# Altium footprint library simplex_3.PcbLib: 39 footprints (part 1 of 3)
Each footprint in its own frame and in the unit in brackets; x right, y up, seen from the top. Pads: shape width x height; smd on the part's side, far side on the other; paste and mask are expansions set on the pad; w line width, h text height; cw(c..) or ccw(c..) is an arc to the next point about the centre after c.
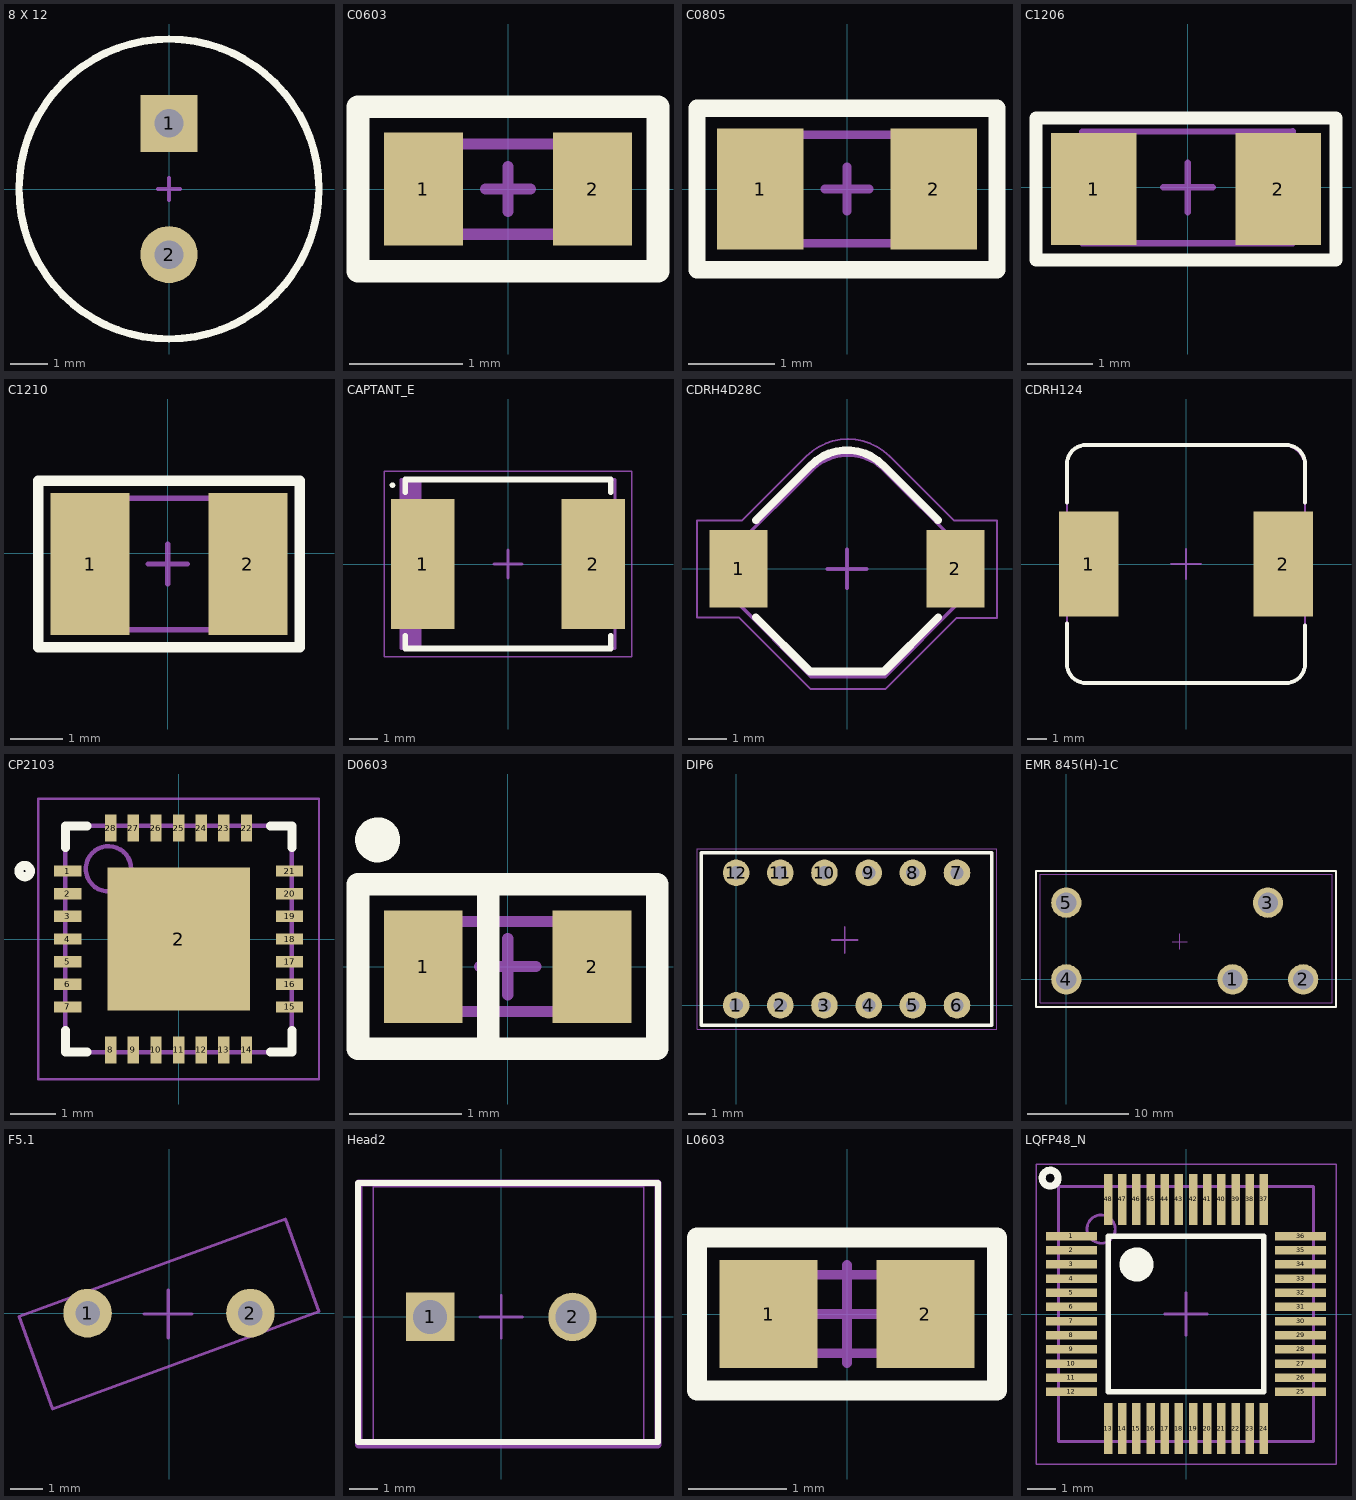
[diagram p0: the footprints below, top view; thin cyan lines are the x and y axes]

## 8 X 12 [mil]
pads (2):
  rect 60x60 hole 30: 1(0,68.9)
  round 60 hole 30: 2(0,-68.9)
Top Overlay:
  circle w7.87: c0,0 r157.56
Mechanical 9:
  text ".Comment" at -39.37,-29.53 h31.5
  text ".Designator" at -39.37,9.84 h39.37
Mechanical 11:
  circle w3.94: c0,0 r157.56
Mechanical 15:
  circle w1.97: c0,0 r157.56
  lines w3.94: -11.81,0 11.81,0 ; 0,-11.81 0,11.81
3D body: height 472.44, standoff 0, extent -157.24,-157.41 157.49,157.43

## C0603 [mm]
height 0.9
pads (2):
  rect 0.7x1 smd: 1(-0.75,0) 2(0.75,0)
Top Overlay:
  lines w0.2: -1.33,-0.73 -1.33,0.73 1.33,0.73 1.33,-0.73 -1.33,-0.73
Mechanical 9:
  text ".Comment" at -0.75,-0.5 h0.8
  text ".Designator" at -0.75,0 h1
Mechanical 11:
  lines w0.1: -0.8,-0.4 0.8,-0.4 0.8,0.4 -0.8,0.4 -0.8,-0.4
Mechanical 15:
  lines w0.05: 0,0.725 -1.325,0.725 ; -1.325,0.725 -1.325,-0.725 1.325,-0.725 1.325,0.725 -1.325,0.725
  lines w0.1: -0.2,0 0.2,0 ; 0,-0.2 0,0.2
3D body: height 0.9, standoff 0, extent -0.8,-0.4 0.8,0.4

## C0805 [mm]
height 1.3
pads (2):
  rect 1x1.4 smd: 1(-1,0) 2(1,0)
Top Overlay:
  lines w0.2: -1.73,-0.93 -1.73,0.93 1.73,0.93 1.73,-0.93 -1.73,-0.93
Mechanical 9:
  text ".Comment" at -0.75,-0.5 h0.8
  text ".Designator" at -0.75,0.25 h1
Mechanical 11:
  lines w0.1: -1,-0.625 1,-0.625 1,0.625 -1,0.625 -1,-0.625
Mechanical 15:
  lines w0.05: -1.73,-0.93 1.73,-0.93 1.73,0.93 -1.73,0.93 -1.73,-0.93
  lines w0.1: -0.254,0 0.254,0 ; 0,-0.254 0,0.254
3D body: height 0.78, standoff 0, extent -1,-0.625 1,0.625

## C1206 [mm]
height 1.5
pads (2):
  rect 1.3x1.7 smd: 1(-1.428,-0.024) 2(1.372,-0.024)
Top Overlay:
  lines w0.2: -2.308,-1.104 -2.308,1.056 2.252,1.056 2.252,-1.104 -2.308,-1.104
Mechanical 9:
  text ".Designator" at -1,0.25 h1
  text ".Comment" at -1,-0.5 h0.8
Mechanical 11:
  lines w0.1: -1.603,-0.849 1.597,-0.849 1.597,0.851 -1.603,0.849 -1.603,-0.849
Mechanical 15:
  lines w0.05: 0,1.05 -2.3,1.05 ; -2.3,1.05 2.25,1.05 2.25,-1.1 -2.3,-1.1 -2.3,1.05
  lines w0.1: -0.375,0 0.375,0 ; 0,-0.375 0,0.375
3D body: height 1.45, standoff -0.05, extent -1.603,-0.849 1.597,0.851

## C1210 [mm]
height 2.5
pads (2):
  rect 1.5x2.7 smd: 1(-1.475,-0.2) 2(1.525,-0.2)
Top Overlay:
  lines w0.2: -2.455,-1.78 2.505,-1.78 2.505,1.38 -2.455,1.38 -2.455,-1.78
Mechanical 9:
  text ".Designator" at -1.25,0 h1
  text ".Comment" at -1.25,-0.75 h0.8
Mechanical 11:
  lines w0.1: -1.575,-1.45 -1.575,1.05 1.625,1.05 1.625,-1.45 -1.575,-1.45
Mechanical 15:
  lines w0.05: -2.455,-1.78 -2.455,1.38 2.505,1.38 2.505,-1.78 -2.455,-1.78
  lines w0.1: -0.375,-0.2 0.375,-0.2 ; 0,-0.575 0,0.175
3D body: height 1.65, standoff -0.05, extent -1.5,-1.425 1.7,1.075

## CAPTANT_E [mm] "Chip Capacitor, 2-Leads, Body 7,30x4,30mm, IPC Medium Density"
height 4.4
pads (2):
  rect 2.25x4.6 smd: 1(-3.025,0) 2(3.025,0)
Top Overlay:
  circle w0.1: c-4.1,2.8 r0.05
  lines w0.2: -3.65,-2.55 -3.65,-3 3.65,-3 3.65,-2.55 ; -3.65,2.55 -3.65,3 3.65,3 3.65,2.55
Mechanical 9:
  text ".Designator" at -0.6,0.3 h1
  text ".Comment" at -0.6,-0.6 h0.8
Mechanical 11:
  rectangle: -3.8,-3 -3.125,3
  lines w0.1: -3.125,-3 -3.125,3 ; -3.8,-3 3.8,-3 3.8,3 -3.8,3 -3.8,-3
Mechanical 15:
  lines w0.05: -4.4,-3.3 4.4,-3.3 4.4,3.3 -4.4,3.3 -4.4,-3.3
  lines w0.1: -0.5,0 0.5,0 ; 0,-0.5 0,0.5
3D body: height 3.6, standoff 0, extent -3.65,-3 3.65,3

## CDRH4D28C [mm]
height 3
pads (2):
  rect 1.5x2 smd: 1(-2.8,0) 2(2.8,0)
Top Overlay:
  lines w0.2: -2.356,-1.25 -0.955,-2.652 0.955,-2.652 2.356,-1.25 ; -2.353,1.253 -0.919,2.687 cw(c0,1.768) 0.919,2.687 2.353,1.253
Mechanical 9:
  text ".Comment" at -0.75,-0.5 h0.8
  text ".Designator" at -0.75,0.19 h1
Mechanical 11:
  lines w0.1: -2.874,-0.832 -0.93,-2.777 0.98,-2.777 2.924,-0.832 2.924,0.582 0.944,2.562 ccw(c0.025,1.643) -0.894,2.562 -2.874,0.582 -2.874,-0.832
Mechanical 15:
  lines w0.05: -3.875,-1.25 -3.875,1.25 -2.75,1.25 -2.706,1.25 -1.052,2.904 cw(c0.024,1.827) 1.101,2.904 ; -3.873,-1.252 -2.798,-1.252 -0.95,-3.1 1,-3.1 2.825,-1.275 3.875,-1.275 3.875,1.25 2.762,1.25 1.105,2.908
  lines w0.1: -0.5,0 0.5,0 ; 0,-0.5 0,0.5
3D body: height 3, standoff 0, extent -3.511,-3.621 3.561,3.45

## CDRH124 [mm]
pads (2):
  rect 3x5.3 smd: 1(-4.9,0) 2(4.9,0)
Top Overlay:
  lines w0.2: -6,-3 -6,-5 ccw(c-5,-5) -5,-6 5,-6 ccw(c5,-5) 6,-5 6,-3.1 ; -6,3.1 -6,5 cw(c-5,5) -5,6 5,6 cw(c5,5) 6,5 6,3.1
Mechanical 9:
  text ".Designator" at -1,0.25 h1
  text ".Comment" at -1,-0.5 h0.8
Mechanical 11:
  lines w0.1: -6,-5 ccw(c-5,-5) -5,-6 5,-6 ccw(c5,-5) 6,-5 6,-3.1 6,3.1 6,4.81 ccw(c4.81,4.81) 4.81,6 -5,6 ccw(c-5,5) -6,5 -6,3.1 -6,-3 -6,-5
Mechanical 15:
  lines w0.05: -6,-5 ccw(c-5,-5) -5,-6 5,-6 ccw(c5,-5) 6,-5 6,-3.1 6,3.1 6,4.81 ccw(c4.81,4.81) 4.81,6 -5,6 ccw(c-5,5) -6,5 -6,3.1 -6,-3 -6,-5
  lines w0.1: -0.75,0 0.75,0 ; 0,-0.75 0,0.75
3D body: height 4.6, standoff 0.05, extent -6.1,-6.15 6.2,6.15

## CP2103 [mm] "QFN, 28-Leads, Body 5,0x5,0mm (max), Pitch 0,50mm, IPC Medium Density"
height 1
pads (29):
  rect 0.6x0.25 smd: 1(-2.45,1.5) 2(-2.45,1) 3(-2.45,0.5) 4(-2.45,0) 5(-2.45,-0.5) 6(-2.45,-1) 7(-2.45,-1.5) 15(2.45,-1.5) 16(2.45,-1) 17(2.45,-0.5) 18(2.45,0) 19(2.45,0.5) 20(2.45,1) 21(2.45,1.5)
  rect 3.15x3.15 smd: 2(0,0)
  rect 0.25x0.6 smd: 8(-1.5,-2.45) 9(-1,-2.45) 10(-0.5,-2.45) 11(0,-2.45) 12(0.5,-2.45) 13(1,-2.45) 14(1.5,-2.45) 22(1.5,2.45) 23(1,2.45) 24(0.5,2.45) 25(0,2.45) 26(-0.5,2.45) 27(-1,2.45) 28(-1.5,2.45)
Top Overlay:
  circle w0.2: c-3.4,1.5 r0.125
  lines w0.2: -2.5,-2.025 -2.5,-2.5 -2.025,-2.5 ; -2.5,2.025 -2.5,2.5 -2.025,2.5 ; 2.025,-2.5 2.5,-2.5 2.5,-2.025 ; 2.025,2.5 2.5,2.5 2.5,2.025
Mechanical 9:
  text ".Designator" at -1.25,0.25 h1
  text ".Comment" at -1.25,-0.44 h0.8
Mechanical 11:
  circle w0.1: c-1.55,1.55 r0.5
  lines w0.1: -2.5,-2.5 -2.5,2.5 2.5,2.5 2.5,-2.5 -2.5,-2.5
Mechanical 15:
  lines w0.05: -3.1,-3.1 -3.1,3.1 3.1,3.1 3.1,-3.1 -3.1,-3.1
  lines w0.1: -0.5,0 0.5,0 ; 0,-0.5 0,0.5
3D body: height 1, standoff 0.11, extent -2.5,-2.5 2.5,2.5

## D0603 [mm]
height 1.1
pads (2):
  rect 0.7x1 smd: 1(-0.75,0) 2(0.75,0)
Top Overlay:
  circle w0.2: c-1.155,1.125 r0.1
  lines w0.2: -0.175,-0.73 -0.175,0.73 ; -1.33,-0.73 -1.33,0.73 1.33,0.73 1.33,-0.73 -1.33,-0.73
Mechanical 9:
  text ".Comment" at -0.75,-0.5 h0.8
  text ".Designator" at -0.75,0.25 h1
Mechanical 11:
  lines w0.1: -0.7,-0.4 -0.7,0.4 ; -0.6,-0.4 -0.6,0.4 ; -0.5,-0.4 -0.5,0.4 ; -0.8,-0.4 0.8,-0.4 0.8,0.4 -0.8,0.4 -0.8,-0.4
Mechanical 15:
  lines w0.05: -1.325,-0.735 1.335,-0.735 1.335,0.725 -1.325,0.725 -1.325,-0.735
  lines w0.1: -0.25,0 0.25,0 ; 0,-0.25 0,0.25
3D body: height 1.1, standoff 0, extent -0.8,-0.4 0.8,0.4

## DIP6 [mil]
pads (12):
  round 60 hole 30: 1(0,0) 2(100,0) 3(200,0) 4(300,0) 5(400,0) 6(500,0) 7(500,300) 8(400,300) 9(300,300) 10(200,300) 11(100,300) 12(0,300)
Top Overlay:
  lines w7.87: -78.74,-44.88 -78.74,344.88 578.74,344.88 578.74,-44.88 -78.74,-44.88
Mechanical 9:
  text ".Designator" at 206.69,157.48 h39.37
  text ".Comment" at 206.69,127.95 h31.5
Mechanical 11:
  lines w3.94: -78.74,-45.28 578.74,-45.28 578.74,344.49 -78.74,344.49 -78.74,-45.28
Mechanical 15:
  lines w1.97: -88.58,-54.13 -88.58,354.33 590.55,354.33 590.55,-54.13 -88.58,-54.13
  lines w3.94: 216.54,147.64 275.59,147.64 ; 246.06,118.11 246.06,177.17
3D body: height 354.33, standoff -143.7, extent -76.74,-104.82 580.74,344

## EMR 845(H)-1C [mm]
height 1.12
pads (5):
  round 3 hole 2: 1(16.5,0) 2(23.5,0) 3(20,7.6) 4(0,0) 5(0,7.6)
Top Overlay:
  lines w0.2: -3,-2.75 26.75,-2.75 26.75,7.25 26.75,10.25 26.75,10.75 -3,10.75 -3,10.5 -3,-2.75
Mechanical 9:
  text ".Designator" at 10,4 h1
  text ".Comment" at 10,3.25 h0.8
Mechanical 11:
  lines w0.1: -2.6,-2.3 -2.6,10.4 26.4,10.4 26.4,-2.3 -2.6,-2.3
Mechanical 15:
  lines w0.05: -3,-2.75 -3,10.5 -3,10.75 26.75,10.75 26.75,10.25 26.75,7.25 26.75,-2.75 -3,-2.75
  lines w0.1: 10.5,3.75 12,3.75 ; 11.25,3 11.25,4.5
3D body: height 18.5, standoff -3.5, extent -2.587,-2.311 26.413,10.389

## F5.1 [mil]
pads (2):
  round 60 hole 30: 1(-100.39,0) 2(100.39,0)
Mechanical 9:
  text ".Designator" at -49.21,9.84 h39.37
  text ".Comment" at -49.21,-19.68 h31.5
Mechanical 11:
  lines w3.94: -185.04,-3.94 -143.7,-118.11 185.04,1.97 143.7,116.14 -185.04,-3.94
Mechanical 15:
  lines w1.97: -185.04,-3.95 143.7,116.12 185.04,1.95 -143.7,-118.13 -185.04,-3.95
  lines w3.94: -30.51,-0.98 28.54,-0.98 ; -0.98,-30.51 -0.98,28.54
3D body: height 608.27, standoff -251.97, extent -185.31,-117.77 185.51,116.27

## Head2 [mm]
pads (2):
  rect 1.7x1.7 hole 1.2: 1(-2.5,0)
  round 1.7 hole 1.2: 2(2.5,0)
Top Overlay:
  lines w0.2: -5.029,-4.394 -5.029,4.7 5.5,4.7 5.5,-4.394 -5.029,-4.394
Mechanical 9:
  text ".Designator" at -1.25,0.5 h1
  text ".Comment" at -1.25,-0.25 h0.8
Mechanical 11:
  lines w0.254: -5,-4.5 5.5,-4.5 5.5,4.7 -5,4.7 -5,-4.5
Mechanical 15:
  lines w0.05: -4.5,-4.394 5,-4.394 5,4.572 -4.5,4.572 -4.5,-4.394
  lines w0.1: -0.75,0 0.75,0 ; 0,-0.75 0,0.75
3D body: height 15.2, standoff -3.5, extent -4.996,-4.377 5.504,4.623

## L0603 [mm]
height 0.8
pads (2):
  rect 1x1.1 smd: 1(-0.8,0) 2(0.8,0)
Top Overlay:
  lines w0.2: -1.53,-0.78 -1.53,0.78 1.53,0.78 1.53,-0.78 -1.53,-0.78
Mechanical 9:
  text ".Designator" at -1,0.25 h1
  text ".Comment" at -1,-0.5 h0.8
Mechanical 11:
  lines w0.1: -0.8,-0.4 -0.8,0.4 0.8,0.4 0.8,-0.4 -0.8,-0.4
Mechanical 15:
  lines w0.05: -1.53,-0.78 1.53,-0.78 1.53,0.78 -1.53,0.78 -1.53,-0.78
  lines w0.1: -0.5,0 0.5,0 ; 0,-0.5 0,0.5
3D body: height 0.8, standoff 0, extent -0.8,-0.4 0.8,0.4

## LQFP48_N [mm] "Thin QFP, 48-Leads, Body 7x7mm, Pitch 0.5mm, IPC Medium Density"
height 1.6
pads (48):
  rect 1.8x0.3 smd: 1(-4.05,2.75) 2(-4.05,2.25) 3(-4.05,1.75) 4(-4.05,1.25) 5(-4.05,0.75) 6(-4.05,0.25) 7(-4.05,-0.25) 8(-4.05,-0.75) 9(-4.05,-1.25) 10(-4.05,-1.75) 11(-4.05,-2.25) 12(-4.05,-2.75) 25(4.05,-2.75) 26(4.05,-2.25) 27(4.05,-1.75) 28(4.05,-1.25) 29(4.05,-0.75) 30(4.05,-0.25) 31(4.05,0.25) 32(4.05,0.75) 33(4.05,1.25) 34(4.05,1.75) 35(4.05,2.25) 36(4.05,2.75)
  rect 0.3x1.8 smd: 13(-2.75,-4.05) 14(-2.25,-4.05) 15(-1.75,-4.05) 16(-1.25,-4.05) 17(-0.75,-4.05) 18(-0.25,-4.05) 19(0.25,-4.05) 20(0.75,-4.05) 21(1.25,-4.05) 22(1.75,-4.05) 23(2.25,-4.05) 24(2.75,-4.05) 37(2.75,4.05) 38(2.25,4.05) 39(1.75,4.05) 40(1.25,4.05) 41(0.75,4.05) 42(0.25,4.05) 43(-0.25,4.05) 44(-0.75,4.05) 45(-1.25,4.05) 46(-1.75,4.05) 47(-2.25,4.05) 48(-2.75,4.05)
Top Overlay:
  circle w0.6: c-1.75,1.75 r0.3
  lines w0.2: -2.75,-2.75 -2.75,2.75 2.75,2.75 2.75,-2.75 -2.75,-2.75
  lines w0.25: -4.624,5.02 ccw(c-4.8,4.8) -4.618,5.014
Mechanical 9:
  text ".Designator" at -1.25,0.25 h1
  text ".Comment" at -1.25,-0.75 h0.8
Mechanical 11:
  circle w0.1: c-3,3 r0.5
  lines w0.1: -4.5,-4.5 -4.5,4.5 4.5,4.5 4.5,-4.5 -4.5,-4.5
Mechanical 15:
  lines w0.05: -5.3,-5.3 5.3,-5.3 5.3,5.3 -5.3,5.3 -5.3,-5.3
  lines w0.1: -0.75,0 0.75,0 ; 0,-0.75 0,0.75
3D body: height 1.46, standoff -0.04, extent -4.507,-4.507 4.508,4.508